# EAGLE library part SGL8023W (library SIGMA_SGL8023W)
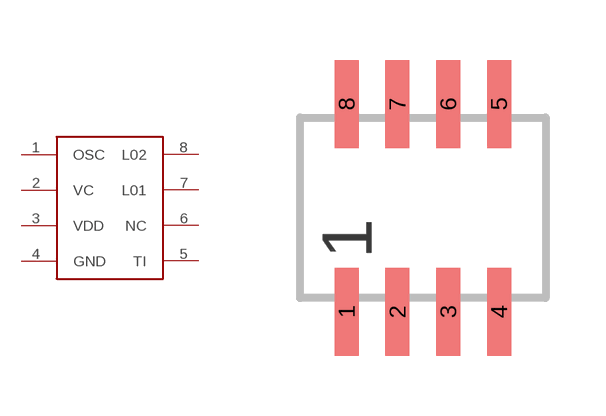
[diagram p0: symbol with the pads of SOT8; footprint SOT8]

Designator prefix -

## SGL8023W  [SOT8]
1  OSC
2  VC
3  VDD
4  GND
5  TI
6  NC
7  L01
8  L02

## Footprint SOT8 (pad centres in mm)
smd 0.6 x 2.2: 1 -1.905,-2.6; 2 -0.635,-2.6; 3 0.635,-2.6; 4 1.905,-2.6; 5 1.905,2.6; 6 0.635,2.6; 7 -0.635,2.6; 8 -1.905,2.6